# Altium schematic symbol library WR-WTB.SchLib: 259 symbols (part 2 of 5)
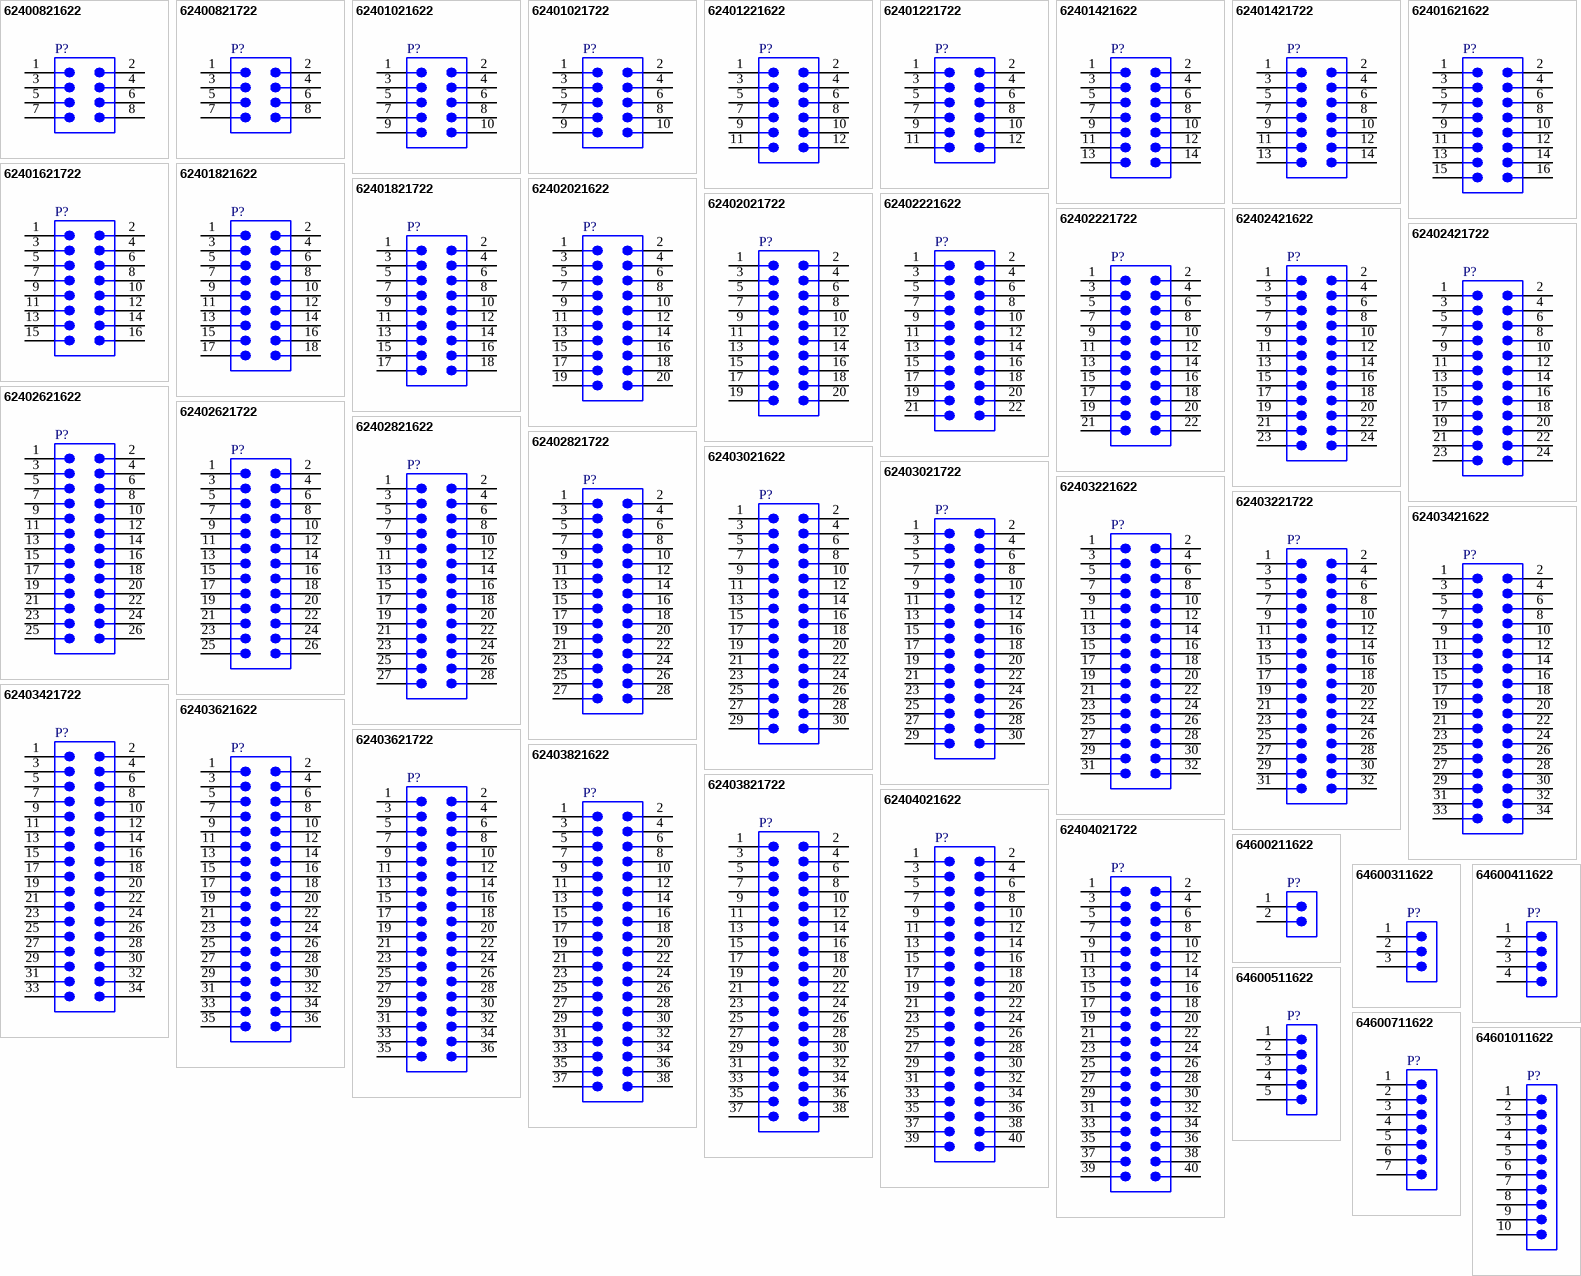
[diagram p7: symbols 62400821622 to 64601011622]

## 62402621622
designator P?  (value not drawn)
WR-WTB THT Male Vertical Shrouded Header with positive locking, Dual Row, pitch 2mm, 26pins; Manufacturer: Wurth Elektronik; Contact Resistance: 20mohm; Rated Current: 3A; Working Voltage: 250V(AC); Withstanding Voltage: 1000V(AC); Manufacturer Part Number: 62402621622; Product Series: WR-WTB; ComponentLink1Description: Website Link; ComponentLink1URL: https://www.we-online.com; ComponentLink2Description: Datasheet Link; ComponentLink2URL: https://www.we-online.com/components/products/datasheet/62402621622; Mount: Through Hole; Operating Temperature Min: -25degC; Operating Temperature Max: 85degC; Packaging: Tube; Length: 29.4mm; Width: 11.5mm; Height: 11.6mm; Gender: Male; Number of Pins: 26; Number of Rows: 2; Orientation: Vertical; Lead Pitch: 2mm
footprint 62402621622
pins: 1, 2, 3, 4, 5, 6, 7, 8, 9, 10, 11, 12, 13, 14, 15, 16, 17, 18, 19, 20, 21, 22, 23, 24, 25, 26

## 62402621722
designator P?  (value not drawn)
WR-WTB THT Male Horizontal Shrouded Header with positive locking, Dual Row, pitch 2mm, 26pins; Manufacturer: Wurth Elektronik; Contact Resistance: 20mohm; Rated Current: 3A; Working Voltage: 250V(AC); Withstanding Voltage: 1000V(AC); Manufacturer Part Number: 62402621722; Product Series: WR-WTB; ComponentLink1Description: Website Link; ComponentLink1URL: https://www.we-online.com; ComponentLink2Description: Datasheet Link; ComponentLink2URL: https://www.we-online.com/components/products/datasheet/62402621722; Mount: Through Hole; Operating Temperature Min: -25degC; Operating Temperature Max: 85degC; Packaging: Tube; Length: 29.4mm; Width: 14.5mm; Height: 11.7mm; Gender: Male; Number of Pins: 26; Number of Rows: 2; Orientation: Horizontal; Lead Pitch: 2mm
footprint 62402621722
pins: 1, 2, 3, 4, 5, 6, 7, 8, 9, 10, 11, 12, 13, 14, 15, 16, 17, 18, 19, 20, 21, 22, 23, 24, 25, 26

## 62402821622
designator P?  (value not drawn)
WR-WTB THT Male Vertical Shrouded Header with positive locking, Dual Row, pitch 2mm, 28pins; Manufacturer: Wurth Elektronik; Contact Resistance: 20mohm; Rated Current: 3A; Working Voltage: 250V(AC); Withstanding Voltage: 1000V(AC); Manufacturer Part Number: 62402821622; Product Series: WR-WTB; ComponentLink1Description: Website Link; ComponentLink1URL: https://www.we-online.com; ComponentLink2Description: Datasheet Link; ComponentLink2URL: https://www.we-online.com/components/products/datasheet/62402821622; Mount: Through Hole; Operating Temperature Min: -25degC; Operating Temperature Max: 85degC; Packaging: Tube; Length: 31.4mm; Width: 11.5mm; Height: 11.6mm; Gender: Male; Number of Pins: 28; Number of Rows: 2; Orientation: Vertical; Lead Pitch: 2mm
footprint 62402821622
pins: 1, 2, 3, 4, 5, 6, 7, 8, 9, 10, 11, 12, 13, 14, 15, 16, 17, 18, 19, 20, 21, 22, 23, 24, 25, 26, 27, 28

## 62402821722
designator P?  (value not drawn)
WR-WTB THT Male Horizontal Shrouded Header with positive locking, Dual Row, pitch 2mm, 28pins; Manufacturer: Wurth Elektronik; Contact Resistance: 20mohm; Rated Current: 3A; Working Voltage: 250V(AC); Withstanding Voltage: 1000V(AC); Manufacturer Part Number: 62402821722; Product Series: WR-WTB; ComponentLink1Description: Website Link; ComponentLink1URL: https://www.we-online.com; ComponentLink2Description: Datasheet Link; ComponentLink2URL: https://www.we-online.com/components/products/datasheet/62402821722; Mount: Through Hole; Operating Temperature Min: -25degC; Operating Temperature Max: 85degC; Packaging: Tube; Length: 31.4mm; Width: 14.5mm; Height: 11.7mm; Gender: Male; Number of Pins: 28; Number of Rows: 2; Orientation: Horizontal; Lead Pitch: 2mm
footprint 62402821722
pins: 1, 2, 3, 4, 5, 6, 7, 8, 9, 10, 11, 12, 13, 14, 15, 16, 17, 18, 19, 20, 21, 22, 23, 24, 25, 26, 27, 28

## 62403021622
designator P?  (value not drawn)
WR-WTB THT Male Vertical Shrouded Header with positive locking, Dual Row, pitch 2mm, 30pins; Manufacturer: Wurth Elektronik; Contact Resistance: 20mohm; Rated Current: 3A; Working Voltage: 250V(AC); Withstanding Voltage: 1000V(AC); Manufacturer Part Number: 62403021622; Product Series: WR-WTB; ComponentLink1Description: Website Link; ComponentLink1URL: https://www.we-online.com; ComponentLink2Description: Datasheet Link; ComponentLink2URL: https://www.we-online.com/components/products/datasheet/62403021622; Mount: Through Hole; Operating Temperature Min: -25degC; Operating Temperature Max: 85degC; Packaging: Tube; Length: 33.4mm; Width: 11.5mm; Height: 11.6mm; Gender: Male; Number of Pins: 30; Number of Rows: 2; Orientation: Vertical; Lead Pitch: 2mm
footprint 62403021622
pins: 1, 2, 3, 4, 5, 6, 7, 8, 9, 10, 11, 12, 13, 14, 15, 16, 17, 18, 19, 20, 21, 22, 23, 24, 25, 26, 27, 28, 29, 30

## 62403021722
designator P?  (value not drawn)
WR-WTB THT Male Horizontal Shrouded Header with positive locking, Dual Row, pitch 2mm, 30pins; Manufacturer: Wurth Elektronik; Contact Resistance: 20mohm; Rated Current: 3A; Working Voltage: 250V(AC); Withstanding Voltage: 1000V(AC); Manufacturer Part Number: 62403021722; Product Series: WR-WTB; ComponentLink1Description: Website Link; ComponentLink1URL: https://www.we-online.com; ComponentLink2Description: Datasheet Link; ComponentLink2URL: https://www.we-online.com/components/products/datasheet/62403021722; Mount: Through Hole; Operating Temperature Min: -25degC; Operating Temperature Max: 85degC; Packaging: Tube; Length: 33.4mm; Width: 14.5mm; Height: 11.7mm; Gender: Male; Number of Pins: 30; Number of Rows: 2; Orientation: Horizontal; Lead Pitch: 2mm
footprint 62403021722
pins: 1, 2, 3, 4, 5, 6, 7, 8, 9, 10, 11, 12, 13, 14, 15, 16, 17, 18, 19, 20, 21, 22, 23, 24, 25, 26, 27, 28, 29, 30

## 62403221622
designator P?  (value not drawn)
WR-WTB THT Male Vertical Shrouded Header with positive locking, Dual Row, pitch 2mm, 32pins; Manufacturer: Wurth Elektronik; Contact Resistance: 20mohm; Rated Current: 3A; Working Voltage: 250V(AC); Withstanding Voltage: 1000V(AC); Manufacturer Part Number: 62403221622; Product Series: WR-WTB; ComponentLink1Description: Website Link; ComponentLink1URL: https://www.we-online.com; ComponentLink2Description: Datasheet Link; ComponentLink2URL: https://www.we-online.com/components/products/datasheet/62403221622; Mount: Through Hole; Operating Temperature Min: -25degC; Operating Temperature Max: 85degC; Packaging: Tube; Length: 35.4mm; Width: 11.5mm; Height: 11.6mm; Gender: Male; Number of Pins: 32; Number of Rows: 2; Orientation: Vertical; Lead Pitch: 2mm
footprint 62403221622
pins: 1, 2, 3, 4, 5, 6, 7, 8, 9, 10, 11, 12, 13, 14, 15, 16, 17, 18, 19, 20, 21, 22, 23, 24, 25, 26, 27, 28, 29, 30, 31, 32

## 62403221722
designator P?  (value not drawn)
WR-WTB THT Male Horizontal Shrouded Header with positive locking, Dual Row, pitch 2mm, 32pins; Manufacturer: Wurth Elektronik; Contact Resistance: 20mohm; Rated Current: 3A; Working Voltage: 250V(AC); Withstanding Voltage: 1000V(AC); Manufacturer Part Number: 62403221722; Product Series: WR-WTB; ComponentLink1Description: Website Link; ComponentLink1URL: https://www.we-online.com; ComponentLink2Description: Datasheet Link; ComponentLink2URL: https://www.we-online.com/components/products/datasheet/62403221722; Mount: Through Hole; Operating Temperature Min: -25degC; Operating Temperature Max: 85degC; Packaging: Tube; Length: 35.4mm; Width: 14.5mm; Height: 11.7mm; Gender: Male; Number of Pins: 32; Number of Rows: 2; Orientation: Horizontal; Lead Pitch: 2mm
footprint 62403221722
pins: 1, 2, 3, 4, 5, 6, 7, 8, 9, 10, 11, 12, 13, 14, 15, 16, 17, 18, 19, 20, 21, 22, 23, 24, 25, 26, 27, 28, 29, 30, 31, 32

## 62403421622
designator P?  (value not drawn)
WR-WTB THT Male Vertical Shrouded Header with positive locking, Dual Row, pitch 2mm, 34pins; Manufacturer: Wurth Elektronik; Contact Resistance: 20mohm; Rated Current: 3A; Working Voltage: 250V(AC); Withstanding Voltage: 1000V(AC); Manufacturer Part Number: 62403421622; Product Series: WR-WTB; ComponentLink1Description: Website Link; ComponentLink1URL: https://www.we-online.com; ComponentLink2Description: Datasheet Link; ComponentLink2URL: https://www.we-online.com/components/products/datasheet/62403421622; Mount: Through Hole; Operating Temperature Min: -25degC; Operating Temperature Max: 85degC; Packaging: Tube; Length: 37.4mm; Width: 11.5mm; Height: 11.6mm; Gender: Male; Number of Pins: 34; Number of Rows: 2; Orientation: Vertical; Lead Pitch: 2mm
footprint 62403421622
pins: 1, 2, 3, 4, 5, 6, 7, 8, 9, 10, 11, 12, 13, 14, 15, 16, 17, 18, 19, 20, 21, 22, 23, 24, 25, 26, 27, 28, 29, 30, 31, 32, 33, 34

## 62403421722
designator P?  (value not drawn)
WR-WTB THT Male Horizontal Shrouded Header with positive locking, Dual Row, pitch 2mm, 34pins; Manufacturer: Wurth Elektronik; Contact Resistance: 20mohm; Rated Current: 3A; Working Voltage: 250V(AC); Withstanding Voltage: 1000V(AC); Manufacturer Part Number: 62403421722; Product Series: WR-WTB; ComponentLink1Description: Website Link; ComponentLink1URL: https://www.we-online.com; ComponentLink2Description: Datasheet Link; ComponentLink2URL: https://www.we-online.com/components/products/datasheet/62403421722; Mount: Through Hole; Operating Temperature Min: -25degC; Operating Temperature Max: 85degC; Packaging: Tube; Length: 37.4mm; Width: 14.5mm; Height: 11.7mm; Gender: Male; Number of Pins: 34; Number of Rows: 2; Orientation: Horizontal; Lead Pitch: 2mm
footprint 62403421722
pins: 1, 2, 3, 4, 5, 6, 7, 8, 9, 10, 11, 12, 13, 14, 15, 16, 17, 18, 19, 20, 21, 22, 23, 24, 25, 26, 27, 28, 29, 30, 31, 32, 33, 34

## 62403621622
designator P?  (value not drawn)
WR-WTB THT Male Vertical Shrouded Header with positive locking, Dual Row, pitch 2mm, 36pins; Manufacturer: Wurth Elektronik; Contact Resistance: 20mohm; Rated Current: 3A; Working Voltage: 250V(AC); Withstanding Voltage: 1000V(AC); Manufacturer Part Number: 62403621622; Product Series: WR-WTB; ComponentLink1Description: Website Link; ComponentLink1URL: https://www.we-online.com; ComponentLink2Description: Datasheet Link; ComponentLink2URL: https://www.we-online.com/components/products/datasheet/62403621622; Mount: Through Hole; Operating Temperature Min: -25degC; Operating Temperature Max: 85degC; Packaging: Tube; Length: 39.4mm; Width: 11.5mm; Height: 11.6mm; Gender: Male; Number of Pins: 36; Number of Rows: 2; Orientation: Vertical; Lead Pitch: 2mm
footprint 62403621622
pins: 1, 2, 3, 4, 5, 6, 7, 8, 9, 10, 11, 12, 13, 14, 15, 16, 17, 18, 19, 20, 21, 22, 23, 24, 25, 26, 27, 28, 29, 30, 31, 32, 33, 34, 35, 36

## 62403621722
designator P?  (value not drawn)
WR-WTB THT Male Horizontal Shrouded Header with positive locking, Dual Row, pitch 2mm, 36pins; Manufacturer: Wurth Elektronik; Contact Resistance: 20mohm; Rated Current: 3A; Working Voltage: 250V(AC); Withstanding Voltage: 1000V(AC); Manufacturer Part Number: 62403621722; Product Series: WR-WTB; ComponentLink1Description: Website Link; ComponentLink1URL: https://www.we-online.com; ComponentLink2Description: Datasheet Link; ComponentLink2URL: https://www.we-online.com/components/products/datasheet/62403621722; Mount: Through Hole; Operating Temperature Min: -25degC; Operating Temperature Max: 85degC; Packaging: Tube; Length: 39.4mm; Width: 14.5mm; Height: 11.7mm; Gender: Male; Number of Pins: 36; Number of Rows: 2; Orientation: Horizontal; Lead Pitch: 2mm
footprint 62403621722
pins: 1, 2, 3, 4, 5, 6, 7, 8, 9, 10, 11, 12, 13, 14, 15, 16, 17, 18, 19, 20, 21, 22, 23, 24, 25, 26, 27, 28, 29, 30, 31, 32, 33, 34, 35, 36

## 62403821622
designator P?  (value not drawn)
WR-WTB THT Male Vertical Shrouded Header with positive locking, Dual Row, pitch 2mm, 38pins; Manufacturer: Wurth Elektronik; Contact Resistance: 20mohm; Rated Current: 3A; Working Voltage: 250V(AC); Withstanding Voltage: 1000V(AC); Manufacturer Part Number: 62403821622; Product Series: WR-WTB; ComponentLink1Description: Website Link; ComponentLink1URL: https://www.we-online.com; ComponentLink2Description: Datasheet Link; ComponentLink2URL: https://www.we-online.com/components/products/datasheet/62403821622; Mount: Through Hole; Operating Temperature Min: -25degC; Operating Temperature Max: 85degC; Packaging: Tube; Length: 41.4mm; Width: 11.5mm; Height: 11.6mm; Gender: Male; Number of Pins: 38; Number of Rows: 2; Orientation: Vertical; Lead Pitch: 2mm
footprint 62403821622
pins: 1, 2, 3, 4, 5, 6, 7, 8, 9, 10, 11, 12, 13, 14, 15, 16, 17, 18, 19, 20, 21, 22, 23, 24, 25, 26, 27, 28, 29, 30, 31, 32, 33, 34, 35, 36, 37, 38

## 62403821722
designator P?  (value not drawn)
WR-WTB THT Male Horizontal Shrouded Header with positive locking, Dual Row, pitch 2mm, 38pins; Manufacturer: Wurth Elektronik; Contact Resistance: 20mohm; Rated Current: 3A; Working Voltage: 250V(AC); Withstanding Voltage: 1000V(AC); Manufacturer Part Number: 62403821722; Product Series: WR-WTB; ComponentLink1Description: Website Link; ComponentLink1URL: https://www.we-online.com; ComponentLink2Description: Datasheet Link; ComponentLink2URL: https://www.we-online.com/components/products/datasheet/62403821722; Mount: Through Hole; Operating Temperature Min: -25degC; Operating Temperature Max: 85degC; Packaging: Tube; Length: 41.4mm; Width: 14.5mm; Height: 11.7mm; Gender: Male; Number of Pins: 38; Number of Rows: 2; Orientation: Horizontal; Lead Pitch: 2mm
footprint 62403821722
pins: 1, 2, 3, 4, 5, 6, 7, 8, 9, 10, 11, 12, 13, 14, 15, 16, 17, 18, 19, 20, 21, 22, 23, 24, 25, 26, 27, 28, 29, 30, 31, 32, 33, 34, 35, 36, 37, 38

## 62404021622
designator P?  (value not drawn)
WR-WTB THT Male Vertical Shrouded Header with positive locking, Dual Row, pitch 2mm, 40pins; Manufacturer: Wurth Elektronik; Contact Resistance: 20mohm; Rated Current: 3A; Working Voltage: 250V(AC); Withstanding Voltage: 1000V(AC); Manufacturer Part Number: 62404021622; Product Series: WR-WTB; ComponentLink1Description: Website Link; ComponentLink1URL: https://www.we-online.com; ComponentLink2Description: Datasheet Link; ComponentLink2URL: https://www.we-online.com/components/products/datasheet/62404021622; Mount: Through Hole; Operating Temperature Min: -25degC; Operating Temperature Max: 85degC; Packaging: Tube; Length: 43.4mm; Width: 11.5mm; Height: 11.6mm; Gender: Male; Number of Pins: 40; Number of Rows: 2; Orientation: Vertical; Lead Pitch: 2mm
footprint 62404021622
pins: 1, 2, 3, 4, 5, 6, 7, 8, 9, 10, 11, 12, 13, 14, 15, 16, 17, 18, 19, 20, 21, 22, 23, 24, 25, 26, 27, 28, 29, 30, 31, 32, 33, 34, 35, 36, 37, 38, 39, 40

## 62404021722
designator P?  (value not drawn)
WR-WTB THT Male Horizontal Shrouded Header with positive locking, Dual Row, pitch 2mm, 40pins; Manufacturer: Wurth Elektronik; Contact Resistance: 20mohm; Rated Current: 3A; Working Voltage: 250V(AC); Withstanding Voltage: 1000V(AC); Manufacturer Part Number: 62404021722; Product Series: WR-WTB; ComponentLink1Description: Website Link; ComponentLink1URL: https://www.we-online.com; ComponentLink2Description: Datasheet Link; ComponentLink2URL: https://www.we-online.com/components/products/datasheet/62404021722; Mount: Through Hole; Operating Temperature Min: -25degC; Operating Temperature Max: 85degC; Packaging: Tube; Length: 43.4mm; Width: 14.5mm; Height: 11.7mm; Gender: Male; Number of Pins: 40; Number of Rows: 2; Orientation: Horizontal; Lead Pitch: 2mm
footprint 62404021722
pins: 1, 2, 3, 4, 5, 6, 7, 8, 9, 10, 11, 12, 13, 14, 15, 16, 17, 18, 19, 20, 21, 22, 23, 24, 25, 26, 27, 28, 29, 30, 31, 32, 33, 34, 35, 36, 37, 38, 39, 40

## 64600211622
designator P?  (value not drawn)
WR-WTB Male Vertical Shrouded Header, pitch 2.5mm, 2pins; Manufacturer: Wurth Elektronik; Contact Resistance: 20mohm; Rated Current: 3A; Working Voltage: 250V(AC); Withstanding Voltage: 1000V(AC); Manufacturer Part Number: 64600211622; Product Series: WR-WTB; ComponentLink1Description: Website Link; ComponentLink1URL: https://www.we-online.com; ComponentLink2Description: Datasheet Link; ComponentLink2URL: https://www.we-online.com/components/products/datasheet/64600211622; Mount: Through Hole; Operating Temperature Min: -40degC; Operating Temperature Max: 105degC; Packaging: Bag; Length: 7.5mm; Width: 4.9mm; Height: 5.9mm; Gender: Male; Number of Pins: 2; Number of Rows: 1; Orientation: Vertical; Lead Pitch: 2.5mm
footprint 64600211622
pins: 1, 2

## 64600311622
designator P?  (value not drawn)
WR-WTB Male Vertical Shrouded Header, pitch 2.5mm, 3pins; Manufacturer: Wurth Elektronik; Contact Resistance: 20mohm; Rated Current: 3A; Working Voltage: 250V(AC); Withstanding Voltage: 1000V(AC); Manufacturer Part Number: 64600311622; Product Series: WR-WTB; ComponentLink1Description: Website Link; ComponentLink1URL: https://www.we-online.com; ComponentLink2Description: Datasheet Link; ComponentLink2URL: https://www.we-online.com/components/products/datasheet/64600311622; Mount: Through Hole; Operating Temperature Min: -40degC; Operating Temperature Max: 105degC; Packaging: Bag; Length: 10mm; Width: 4.9mm; Height: 5.9mm; Gender: Male; Number of Pins: 3; Number of Rows: 1; Orientation: Vertical; Lead Pitch: 2.5mm
footprint 64600311622
pins: 1, 2, 3

## 64600411622
designator P?  (value not drawn)
WR-WTB Male Vertical Shrouded Header, pitch 2.5mm, 4pins; Manufacturer: Wurth Elektronik; Contact Resistance: 20mohm; Rated Current: 3A; Working Voltage: 250V(AC); Withstanding Voltage: 1000V(AC); Manufacturer Part Number: 64600411622; Product Series: WR-WTB; ComponentLink1Description: Website Link; ComponentLink1URL: https://www.we-online.com; ComponentLink2Description: Datasheet Link; ComponentLink2URL: https://www.we-online.com/components/products/datasheet/64600411622; Mount: Through Hole; Operating Temperature Min: -40degC; Operating Temperature Max: 105degC; Packaging: Bag; Length: 12.5mm; Width: 4.9mm; Height: 5.9mm; Gender: Male; Number of Pins: 4; Number of Rows: 1; Orientation: Vertical; Lead Pitch: 2.5mm
footprint 64600411622
pins: 1, 2, 3, 4

## 64600511622
designator P?  (value not drawn)
WR-WTB Male Vertical Shrouded Header, pitch 2.5mm, 5pins; Manufacturer: Wurth Elektronik; Contact Resistance: 20mohm; Rated Current: 3A; Working Voltage: 250V(AC); Withstanding Voltage: 1000V(AC); Manufacturer Part Number: 64600511622; Product Series: WR-WTB; ComponentLink1Description: Website Link; ComponentLink1URL: https://www.we-online.com; ComponentLink2Description: Datasheet Link; ComponentLink2URL: https://www.we-online.com/components/products/datasheet/64600511622; Mount: Through Hole; Operating Temperature Min: -40degC; Operating Temperature Max: 105degC; Packaging: Bag; Length: 15mm; Width: 4.9mm; Height: 5.9mm; Gender: Male; Number of Pins: 5; Number of Rows: 1; Orientation: Vertical; Lead Pitch: 2.5mm
footprint 64600511622
pins: 1, 2, 3, 4, 5

## 64600711622
designator P?  (value not drawn)
WR-WTB Male Vertical Shrouded Header, pitch 2.5mm, 7pins; Manufacturer: Wurth Elektronik; Contact Resistance: 20mohm; Rated Current: 3A; Working Voltage: 250V(AC); Withstanding Voltage: 1000V(AC); Manufacturer Part Number: 64600711622; Product Series: WR-WTB; ComponentLink1Description: Website Link; ComponentLink1URL: https://www.we-online.com; ComponentLink2Description: Datasheet Link; ComponentLink2URL: https://www.we-online.com/components/products/datasheet/64600711622; Mount: Through Hole; Operating Temperature Min: -40degC; Operating Temperature Max: 105degC; Packaging: Bag; Length: 20mm; Width: 4.9mm; Height: 5.9mm; Gender: Male; Number of Pins: 7; Number of Rows: 1; Orientation: Vertical; Lead Pitch: 2.5mm
footprint 64600711622
pins: 1, 2, 3, 4, 5, 6, 7

## 64601011622
designator P?  (value not drawn)
WR-WTB Male Vertical Shrouded Header, pitch 2.5mm, 10pins; Manufacturer: Wurth Elektronik; Contact Resistance: 20mohm; Rated Current: 3A; Working Voltage: 250V(AC); Withstanding Voltage: 1000V(AC); Manufacturer Part Number: 64601011622; Product Series: WR-WTB; ComponentLink1Description: Website Link; ComponentLink1URL: https://www.we-online.com; ComponentLink2Description: Datasheet Link; ComponentLink2URL: https://www.we-online.com/components/products/datasheet/64601011622; Mount: Through Hole; Operating Temperature Min: -40degC; Operating Temperature Max: 105degC; Packaging: Bag; Length: 27.5mm; Width: 4.9mm; Height: 5.9mm; Gender: Male; Number of Pins: 10; Number of Rows: 1; Orientation: Vertical; Lead Pitch: 2.5mm
footprint 64601011622
pins: 1, 2, 3, 4, 5, 6, 7, 8, 9, 10

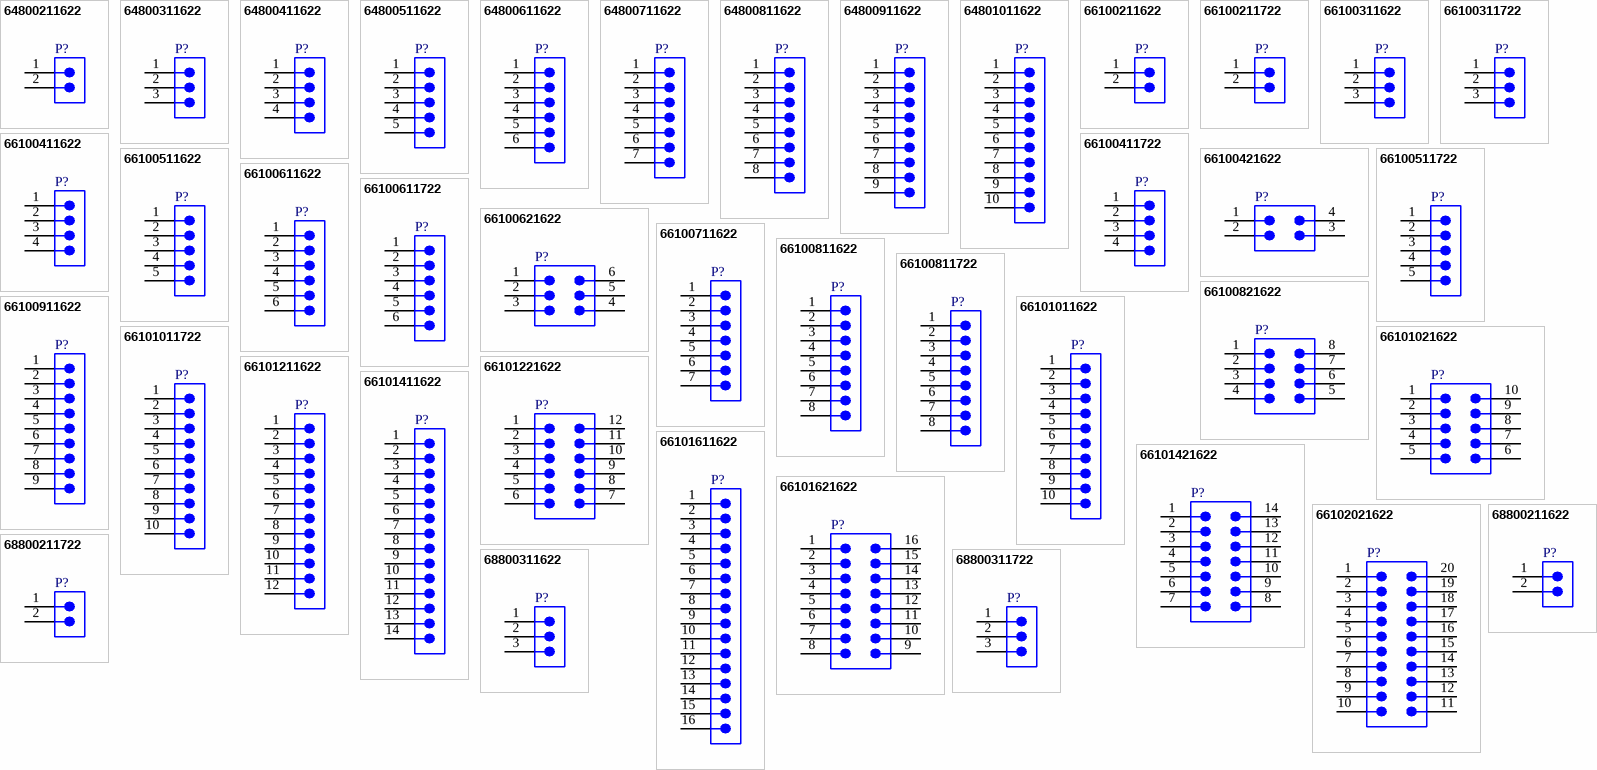
[diagram p2: symbols 64800211622 to 68800311722]

## 64800211622
designator P?  (value not drawn)
WR-WTB THT Male Vertical Shrouded Header, pitch 1.5mm, 2pins; Manufacturer: Wurth Elektronik; Contact Resistance: 20mohm; Rated Current: 1A; Working Voltage: 50V(AC); Withstanding Voltage: 500V(AC); Manufacturer Part Number: 64800211622; Product Series: WR-WTB; ComponentLink1Description: Website Link; ComponentLink1URL: https://www.we-online.com; ComponentLink2Description: Datasheet Link; ComponentLink2URL: https://www.we-online.com/components/products/datasheet/64800211622; Mount: Through Hole; Operating Temperature Min: -25degC; Operating Temperature Max: 85degC; Packaging: Bag; Length: 4.5mm; Width: 3.5mm; Height: 4.5mm; Gender: Male; Number of Pins: 2; Number of Rows: 1; Orientation: Vertical; Lead Pitch: 1.5mm
footprint 64800211622
pins: 1, 2

## 64800311622
designator P?  (value not drawn)
WR-WTB THT Male Vertical Shrouded Header, pitch 1.5mm, 3pins; Manufacturer: Wurth Elektronik; Contact Resistance: 20mohm; Rated Current: 1A; Working Voltage: 50V(AC); Withstanding Voltage: 500V(AC); Manufacturer Part Number: 64800311622; Product Series: WR-WTB; ComponentLink1Description: Website Link; ComponentLink1URL: https://www.we-online.com; ComponentLink2Description: Datasheet Link; ComponentLink2URL: https://www.we-online.com/components/products/datasheet/64800311622; Mount: Through Hole; Operating Temperature Min: -25degC; Operating Temperature Max: 85degC; Packaging: Bag; Length: 6mm; Width: 3.5mm; Height: 4.5mm; Gender: Male; Number of Pins: 3; Number of Rows: 1; Orientation: Vertical; Lead Pitch: 1.5mm
footprint 64800311622
pins: 1, 2, 3

## 64800411622
designator P?  (value not drawn)
WR-WTB THT Male Vertical Shrouded Header, pitch 1.5mm, 4pins; Manufacturer: Wurth Elektronik; Contact Resistance: 20mohm; Rated Current: 1A; Working Voltage: 50V(AC); Withstanding Voltage: 500V(AC); Manufacturer Part Number: 64800411622; Product Series: WR-WTB; ComponentLink1Description: Website Link; ComponentLink1URL: https://www.we-online.com; ComponentLink2Description: Datasheet Link; ComponentLink2URL: https://www.we-online.com/components/products/datasheet/64800411622; Mount: Through Hole; Operating Temperature Min: -25degC; Operating Temperature Max: 85degC; Packaging: Bag; Length: 7.5mm; Width: 3.5mm; Height: 4.5mm; Gender: Male; Number of Pins: 4; Number of Rows: 1; Orientation: Vertical; Lead Pitch: 1.5mm
footprint 64800411622
pins: 1, 2, 3, 4

## 64800511622
designator P?  (value not drawn)
WR-WTB THT Male Vertical Shrouded Header, pitch 1.5mm, 5pins; Manufacturer: Wurth Elektronik; Contact Resistance: 20mohm; Rated Current: 1A; Working Voltage: 50V(AC); Withstanding Voltage: 500V(AC); Manufacturer Part Number: 64800511622; Product Series: WR-WTB; ComponentLink1Description: Website Link; ComponentLink1URL: https://www.we-online.com; ComponentLink2Description: Datasheet Link; ComponentLink2URL: https://www.we-online.com/components/products/datasheet/64800511622; Mount: Through Hole; Operating Temperature Min: -25degC; Operating Temperature Max: 85degC; Packaging: Bag; Length: 9mm; Width: 3.5mm; Height: 4.5mm; Gender: Male; Number of Pins: 5; Number of Rows: 1; Orientation: Vertical; Lead Pitch: 1.5mm
footprint 64800511622
pins: 1, 2, 3, 4, 5

## 64800611622
designator P?  (value not drawn)
WR-WTB THT Male Vertical Shrouded Header, pitch 1.5mm, 6pins; Manufacturer: Wurth Elektronik; Contact Resistance: 20mohm; Rated Current: 1A; Working Voltage: 50V(AC); Withstanding Voltage: 500V(AC); Manufacturer Part Number: 64800611622; Product Series: WR-WTB; ComponentLink1Description: Website Link; ComponentLink1URL: https://www.we-online.com; ComponentLink2Description: Datasheet Link; ComponentLink2URL: https://www.we-online.com/components/products/datasheet/64800611622; Mount: Through Hole; Operating Temperature Min: -25degC; Operating Temperature Max: 85degC; Packaging: Bag; Length: 10.5mm; Width: 3.5mm; Height: 4.5mm; Gender: Male; Number of Pins: 6; Number of Rows: 1; Orientation: Vertical; Lead Pitch: 1.5mm
footprint 64800611622
pins: 1, 2, 3, 4, 5, 6

## 64800711622
designator P?  (value not drawn)
WR-WTB THT Male Vertical Shrouded Header, pitch 1.5mm, 7pins; Manufacturer: Wurth Elektronik; Contact Resistance: 20mohm; Rated Current: 1A; Working Voltage: 50V(AC); Withstanding Voltage: 500V(AC); Manufacturer Part Number: 64800711622; Product Series: WR-WTB; ComponentLink1Description: Website Link; ComponentLink1URL: https://www.we-online.com; ComponentLink2Description: Datasheet Link; ComponentLink2URL: https://www.we-online.com/components/products/datasheet/64800711622; Mount: Through Hole; Operating Temperature Min: -25degC; Operating Temperature Max: 85degC; Packaging: Bag; Length: 12mm; Width: 3.5mm; Height: 4.5mm; Gender: Male; Number of Pins: 7; Number of Rows: 1; Orientation: Vertical; Lead Pitch: 1.5mm
footprint 64800711622
pins: 1, 2, 3, 4, 5, 6, 7

## 64800811622
designator P?  (value not drawn)
WR-WTB THT Male Vertical Shrouded Header, pitch 1.5mm, 8pins; Manufacturer: Wurth Elektronik; Contact Resistance: 20mohm; Rated Current: 1A; Working Voltage: 50V(AC); Withstanding Voltage: 500V(AC); Manufacturer Part Number: 64800811622; Product Series: WR-WTB; ComponentLink1Description: Website Link; ComponentLink1URL: https://www.we-online.com; ComponentLink2Description: Datasheet Link; ComponentLink2URL: https://www.we-online.com/components/products/datasheet/64800811622; Mount: Through Hole; Operating Temperature Min: -25degC; Operating Temperature Max: 85degC; Packaging: Bag; Length: 13.5mm; Width: 3.5mm; Height: 4.5mm; Gender: Male; Number of Pins: 8; Number of Rows: 1; Orientation: Vertical; Lead Pitch: 1.5mm
footprint 64800811622
pins: 1, 2, 3, 4, 5, 6, 7, 8

## 64800911622
designator P?  (value not drawn)
WR-WTB THT Male Vertical Shrouded Header, pitch 1.5mm, 9pins; Manufacturer: Wurth Elektronik; Contact Resistance: 20mohm; Rated Current: 1A; Working Voltage: 50V(AC); Withstanding Voltage: 500V(AC); Manufacturer Part Number: 64800911622; Product Series: WR-WTB; ComponentLink1Description: Website Link; ComponentLink1URL: https://www.we-online.com; ComponentLink2Description: Datasheet Link; ComponentLink2URL: https://www.we-online.com/components/products/datasheet/64800911622; Mount: Through Hole; Operating Temperature Min: -25degC; Operating Temperature Max: 85degC; Packaging: Bag; Length: 15mm; Width: 3.5mm; Height: 4.5mm; Gender: Male; Number of Pins: 9; Number of Rows: 1; Orientation: Vertical; Lead Pitch: 1.5mm
footprint 64800911622
pins: 1, 2, 3, 4, 5, 6, 7, 8, 9

## 64801011622
designator P?  (value not drawn)
WR-WTB THT Male Vertical Shrouded Header, pitch 1.5mm, 10pins; Manufacturer: Wurth Elektronik; Contact Resistance: 20mohm; Rated Current: 1A; Working Voltage: 50V(AC); Withstanding Voltage: 500V(AC); Manufacturer Part Number: 64801011622; Product Series: WR-WTB; ComponentLink1Description: Website Link; ComponentLink1URL: https://www.we-online.com; ComponentLink2Description: Datasheet Link; ComponentLink2URL: https://www.we-online.com/components/products/datasheet/64801011622; Mount: Through Hole; Operating Temperature Min: -25degC; Operating Temperature Max: 85degC; Packaging: Bag; Length: 16.5mm; Width: 3.5mm; Height: 4.5mm; Gender: Male; Number of Pins: 10; Number of Rows: 1; Orientation: Vertical; Lead Pitch: 1.5mm
footprint 64801011622
pins: 1, 2, 3, 4, 5, 6, 7, 8, 9, 10

## 66100211622
designator P?  (value not drawn)
WR-WTB Male Vertical Shrouded Header, pitch 2.54mm, 2pins; Manufacturer: Wurth Elektronik; Contact Resistance: 20mohm; Rated Current: 3A; Working Voltage: 50V(AC); Withstanding Voltage: 500V(AC); Manufacturer Part Number: 66100211622; Product Series: WR-WTB; ComponentLink1Description: Website Link; ComponentLink1URL: https://www.we-online.com; ComponentLink2Description: Datasheet Link; ComponentLink2URL: https://www.we-online.com/components/products/datasheet/66100211622; Mount: Through Hole; Operating Temperature Min: -40degC; Operating Temperature Max: 125degC; Packaging: Box; Length: 4.78mm; Width: 5mm; Height: 11.3mm; Gender: Male; Number of Pins: 2; Number of Rows: 1; Orientation: Vertical; Lead Pitch: 2.54mm
footprint 66100211622
pins: 1, 2

## 66100211722
designator P?  (value not drawn)
WR-WTB THT Male Right Angled Shrouded Header, pitch 2.54mm, 2pins; Manufacturer: Wurth Elektronik; Contact Resistance: 20mohm; Rated Current: 3A; Working Voltage: 50V(AC); Withstanding Voltage: 500V(AC); Manufacturer Part Number: 66100211722; Product Series: WR-WTB; ComponentLink1Description: Website Link; ComponentLink1URL: https://www.we-online.com; ComponentLink2Description: Datasheet Link; ComponentLink2URL: https://www.we-online.com/components/products/datasheet/66100211722; Mount: Through Hole; Operating Temperature Min: -40degC; Operating Temperature Max: 125degC; Packaging: Box; Length: 4.78mm; Width: 11.3mm; Height: 5mm; Gender: Male; Number of Pins: 2; Number of Rows: 1; Orientation: Right Angled; Lead Pitch: 2.54mm
footprint 66100211722
pins: 1, 2

## 66100311622
designator P?  (value not drawn)
WR-WTB Male Vertical Shrouded Header, pitch 2.54mm, 3pins; Manufacturer: Wurth Elektronik; Contact Resistance: 20mohm; Rated Current: 3A; Working Voltage: 50V(AC); Withstanding Voltage: 500V(AC); Manufacturer Part Number: 66100311622; Product Series: WR-WTB; ComponentLink1Description: Website Link; ComponentLink1URL: https://www.we-online.com; ComponentLink2Description: Datasheet Link; ComponentLink2URL: https://www.we-online.com/components/products/datasheet/66100311622; Mount: Through Hole; Operating Temperature Min: -40degC; Operating Temperature Max: 125degC; Packaging: Box; Length: 7.32mm; Width: 5mm; Height: 11.3mm; Gender: Male; Number of Pins: 3; Number of Rows: 1; Orientation: Vertical; Lead Pitch: 2.54mm
footprint 66100311622
pins: 1, 2, 3

## 66100311722
designator P?  (value not drawn)
WR-WTB THT Male Right Angled Shrouded Header, pitch 2.54mm, 3pins; Manufacturer: Wurth Elektronik; Contact Resistance: 20mohm; Rated Current: 3A; Working Voltage: 50V(AC); Withstanding Voltage: 500V(AC); Manufacturer Part Number: 66100311722; Product Series: WR-WTB; ComponentLink1Description: Website Link; ComponentLink1URL: https://www.we-online.com; ComponentLink2Description: Datasheet Link; ComponentLink2URL: https://www.we-online.com/components/products/datasheet/66100311722; Mount: Through Hole; Operating Temperature Min: -40degC; Operating Temperature Max: 125degC; Packaging: Box; Length: 7.32mm; Width: 11.3mm; Height: 5mm; Gender: Male; Number of Pins: 3; Number of Rows: 1; Orientation: Right Angled; Lead Pitch: 2.54mm
footprint 66100311722
pins: 1, 2, 3

## 66100411622
designator P?  (value not drawn)
WR-WTB Male Vertical Shrouded Header, pitch 2.54mm, 4pins; Manufacturer: Wurth Elektronik; Contact Resistance: 20mohm; Rated Current: 3A; Working Voltage: 50V(AC); Withstanding Voltage: 500V(AC); Manufacturer Part Number: 66100411622; Product Series: WR-WTB; ComponentLink1Description: Website Link; ComponentLink1URL: https://www.we-online.com; ComponentLink2Description: Datasheet Link; ComponentLink2URL: https://www.we-online.com/components/products/datasheet/66100411622; Mount: Through Hole; Operating Temperature Min: -40degC; Operating Temperature Max: 125degC; Packaging: Box; Length: 9.86mm; Width: 5mm; Height: 11.3mm; Gender: Male; Number of Pins: 4; Number of Rows: 1; Orientation: Vertical; Lead Pitch: 2.54mm
footprint 66100411622
pins: 1, 2, 3, 4

## 66100411722
designator P?  (value not drawn)
WR-WTB THT Male Right Angled Shrouded Header, pitch 2.54mm, 4pins; Manufacturer: Wurth Elektronik; Contact Resistance: 20mohm; Rated Current: 3A; Working Voltage: 50V(AC); Withstanding Voltage: 500V(AC); Manufacturer Part Number: 66100411722; Product Series: WR-WTB; ComponentLink1Description: Website Link; ComponentLink1URL: https://www.we-online.com; ComponentLink2Description: Datasheet Link; ComponentLink2URL: https://www.we-online.com/components/products/datasheet/66100411722; Mount: Through Hole; Operating Temperature Min: -40degC; Operating Temperature Max: 125degC; Packaging: Box; Length: 9.86mm; Width: 11.3mm; Height: 5mm; Gender: Male; Number of Pins: 4; Number of Rows: 1; Orientation: Right Angled; Lead Pitch: 2.54mm
footprint 66100411722
pins: 1, 2, 3, 4

## 66100421622
designator P?  (value not drawn)
WR-WTB THT Male Vertical Shrouded Header, pitch 2.54mm, 4pins; Manufacturer: Wurth Elektronik; Contact Resistance: 20mohm; Rated Current: 3A; Working Voltage: 50V(AC); Withstanding Voltage: 500V(AC); Manufacturer Part Number: 66100421622; Product Series: WR-WTB; ComponentLink1Description: Website Link; ComponentLink1URL: https://www.we-online.com; ComponentLink2Description: Datasheet Link; ComponentLink2URL: https://www.we-online.com/components/products/datasheet/66100421622; Mount: Through Hole; Operating Temperature Min: -40degC; Operating Temperature Max: 125degC; Packaging: Carton; Width: 7.6mm; Height: 11.2mm; Gender: Male; Number of Pins: 4; Number of Rows: 2; Orientation: Vertical; Lead Pitch: 2.54mm
footprint 66100421622
pins: 1, 2, 3, 4

## 66100511622
designator P?  (value not drawn)
WR-WTB Male Vertical Shrouded Header, pitch 2.54mm, 5pins; Manufacturer: Wurth Elektronik; Contact Resistance: 20mohm; Rated Current: 3A; Working Voltage: 50V(AC); Withstanding Voltage: 500V(AC); Manufacturer Part Number: 66100511622; Product Series: WR-WTB; ComponentLink1Description: Website Link; ComponentLink1URL: https://www.we-online.com; ComponentLink2Description: Datasheet Link; ComponentLink2URL: https://www.we-online.com/components/products/datasheet/66100511622; Mount: Through Hole; Operating Temperature Min: -40degC; Operating Temperature Max: 125degC; Packaging: Box; Length: 12.4mm; Width: 5mm; Height: 11.3mm; Gender: Male; Number of Pins: 5; Number of Rows: 1; Orientation: Vertical; Lead Pitch: 2.54mm
footprint 66100511622
pins: 1, 2, 3, 4, 5

## 66100511722
designator P?  (value not drawn)
WR-WTB THT Male Right Angled Shrouded Header, pitch 2.54mm, 5pins; Manufacturer: Wurth Elektronik; Contact Resistance: 20mohm; Rated Current: 3A; Working Voltage: 50V(AC); Withstanding Voltage: 500V(AC); Manufacturer Part Number: 66100511722; Product Series: WR-WTB; ComponentLink1Description: Website Link; ComponentLink1URL: https://www.we-online.com; ComponentLink2Description: Datasheet Link; ComponentLink2URL: https://www.we-online.com/components/products/datasheet/66100511722; Mount: Through Hole; Operating Temperature Min: -40degC; Operating Temperature Max: 125degC; Packaging: Box; Length: 12.4mm; Width: 11.3mm; Height: 5mm; Gender: Male; Number of Pins: 5; Number of Rows: 1; Orientation: Right Angled; Lead Pitch: 2.54mm
footprint 66100511722
pins: 1, 2, 3, 4, 5

## 66100611622
designator P?  (value not drawn)
WR-WTB Male Vertical Shrouded Header, pitch 2.54mm, 6pins; Manufacturer: Wurth Elektronik; Contact Resistance: 20mohm; Rated Current: 3A; Working Voltage: 50V(AC); Withstanding Voltage: 500V(AC); Manufacturer Part Number: 66100611622; Product Series: WR-WTB; ComponentLink1Description: Website Link; ComponentLink1URL: https://www.we-online.com; ComponentLink2Description: Datasheet Link; ComponentLink2URL: https://www.we-online.com/components/products/datasheet/66100611622; Mount: Through Hole; Operating Temperature Min: -40degC; Operating Temperature Max: 125degC; Packaging: Box; Width: 5mm; Height: 11.3mm; Gender: Male; Number of Pins: 6; Number of Rows: 1; Orientation: Vertical; Lead Pitch: 2.54mm
footprint 66100611622
pins: 1, 2, 3, 4, 5, 6

## 66100611722
designator P?  (value not drawn)
WR-WTB THT Male Right Angled Shrouded Header, pitch 2.54mm, 6pins; Manufacturer: Wurth Elektronik; Contact Resistance: 20mohm; Rated Current: 3A; Working Voltage: 50V(AC); Withstanding Voltage: 500V(AC); Manufacturer Part Number: 66100611722; Product Series: WR-WTB; ComponentLink1Description: Website Link; ComponentLink1URL: https://www.we-online.com; ComponentLink2Description: Datasheet Link; ComponentLink2URL: https://www.we-online.com/components/products/datasheet/66100611722; Mount: Through Hole; Operating Temperature Min: -40degC; Operating Temperature Max: 125degC; Packaging: Box; Length: 14.94mm; Width: 11.3mm; Height: 5mm; Gender: Male; Number of Pins: 6; Number of Rows: 1; Orientation: Right Angled; Lead Pitch: 2.54mm
footprint 66100611722
pins: 1, 2, 3, 4, 5, 6

## 66100621622
designator P?  (value not drawn)
WR-WTB THT Male Vertical Shrouded Header, pitch 2.54mm, 6pins; Manufacturer: Wurth Elektronik; Contact Resistance: 20mohm; Rated Current: 3A; Working Voltage: 50V(AC); Withstanding Voltage: 500V(AC); Manufacturer Part Number: 66100621622; Product Series: WR-WTB; ComponentLink1Description: Website Link; ComponentLink1URL: https://www.we-online.com; ComponentLink2Description: Datasheet Link; ComponentLink2URL: https://www.we-online.com/components/products/datasheet/66100621622; Mount: Through Hole; Operating Temperature Min: -40degC; Operating Temperature Max: 125degC; Packaging: Carton; Width: 7.6mm; Height: 11.2mm; Gender: Male; Number of Pins: 6; Number of Rows: 2; Orientation: Vertical; Lead Pitch: 2.54mm
footprint 66100621622
pins: 1, 2, 3, 4, 5, 6

## 66100711622
designator P?  (value not drawn)
WR-WTB Male Vertical Shrouded Header, pitch 2.54mm, 7pins; Manufacturer: Wurth Elektronik; Contact Resistance: 20mohm; Rated Current: 3A; Working Voltage: 50V(AC); Withstanding Voltage: 500V(AC); Manufacturer Part Number: 66100711622; Product Series: WR-WTB; ComponentLink1Description: Website Link; ComponentLink1URL: https://www.we-online.com; ComponentLink2Description: Datasheet Link; ComponentLink2URL: https://www.we-online.com/components/products/datasheet/66100711622; Mount: Through Hole; Operating Temperature Min: -40degC; Operating Temperature Max: 125degC; Packaging: Box; Width: 5mm; Height: 11.3mm; Gender: Male; Number of Pins: 7; Number of Rows: 1; Orientation: Vertical; Lead Pitch: 2.54mm
footprint 66100711622
pins: 1, 2, 3, 4, 5, 6, 7

## 66100811622
designator P?  (value not drawn)
WR-WTB Male Vertical Shrouded Header, pitch 2.54mm, 8pins; Manufacturer: Wurth Elektronik; Contact Resistance: 20mohm; Rated Current: 3A; Working Voltage: 50V(AC); Withstanding Voltage: 500V(AC); Manufacturer Part Number: 66100811622; Product Series: WR-WTB; ComponentLink1Description: Website Link; ComponentLink1URL: https://www.we-online.com; ComponentLink2Description: Datasheet Link; ComponentLink2URL: https://www.we-online.com/components/products/datasheet/66100811622; Mount: Through Hole; Operating Temperature Min: -40degC; Operating Temperature Max: 125degC; Packaging: Box; Length: 20.02mm; Width: 5mm; Height: 11.3mm; Gender: Male; Number of Pins: 8; Number of Rows: 1; Orientation: Vertical; Lead Pitch: 2.54mm
footprint 66100811622
pins: 1, 2, 3, 4, 5, 6, 7, 8

## 66100811722
designator P?  (value not drawn)
WR-WTB THT Male Right Angled Shrouded Header, pitch 2.54mm, 8pins; Manufacturer: Wurth Elektronik; Contact Resistance: 20mohm; Rated Current: 3A; Working Voltage: 50V(AC); Withstanding Voltage: 500V(AC); Manufacturer Part Number: 66100811722; Product Series: WR-WTB; ComponentLink1Description: Website Link; ComponentLink1URL: https://www.we-online.com; ComponentLink2Description: Datasheet Link; ComponentLink2URL: https://www.we-online.com/components/products/datasheet/66100811722; Mount: Through Hole; Operating Temperature Min: -40degC; Operating Temperature Max: 125degC; Packaging: Box; Length: 20.02mm; Width: 11.3mm; Height: 5mm; Gender: Male; Number of Pins: 8; Number of Rows: 1; Orientation: Right Angled; Lead Pitch: 2.54mm
footprint 66100811722
pins: 1, 2, 3, 4, 5, 6, 7, 8

## 66100821622
designator P?  (value not drawn)
WR-WTB THT Male Vertical Shrouded Header, pitch 2.54mm, 8pins; Manufacturer: Wurth Elektronik; Contact Resistance: 20mohm; Rated Current: 3A; Working Voltage: 50V(AC); Withstanding Voltage: 500V(AC); Manufacturer Part Number: 66100821622; Product Series: WR-WTB; ComponentLink1Description: Website Link; ComponentLink1URL: https://www.we-online.com; ComponentLink2Description: Datasheet Link; ComponentLink2URL: https://www.we-online.com/components/products/datasheet/66100821622; Mount: Through Hole; Operating Temperature Min: -40degC; Operating Temperature Max: 125degC; Packaging: Carton; Width: 7.6mm; Height: 11.2mm; Gender: Male; Number of Pins: 8; Number of Rows: 2; Orientation: Vertical; Lead Pitch: 2.54mm
footprint 66100821622
pins: 1, 2, 3, 4, 5, 6, 7, 8

## 66100911622
designator P?  (value not drawn)
WR-WTB Male Vertical Shrouded Header, pitch 2.54mm, 9pins; Manufacturer: Wurth Elektronik; Contact Resistance: 20mohm; Rated Current: 3A; Working Voltage: 50V(AC); Withstanding Voltage: 500V(AC); Manufacturer Part Number: 66100911622; Product Series: WR-WTB; ComponentLink1Description: Website Link; ComponentLink1URL: https://www.we-online.com; ComponentLink2Description: Datasheet Link; ComponentLink2URL: https://www.we-online.com/components/products/datasheet/66100911622; Mount: Through Hole; Operating Temperature Min: -40degC; Operating Temperature Max: 125degC; Packaging: Box; Width: 5mm; Height: 11.3mm; Gender: Male; Number of Pins: 9; Number of Rows: 1; Orientation: Vertical; Lead Pitch: 2.54mm
footprint 66100911622
pins: 1, 2, 3, 4, 5, 6, 7, 8, 9

## 66101011622
designator P?  (value not drawn)
WR-WTB Male Vertical Shrouded Header, pitch 2.54mm, 10pins; Manufacturer: Wurth Elektronik; Contact Resistance: 20mohm; Rated Current: 3A; Working Voltage: 50V(AC); Withstanding Voltage: 500V(AC); Manufacturer Part Number: 66101011622; Product Series: WR-WTB; ComponentLink1Description: Website Link; ComponentLink1URL: https://www.we-online.com; ComponentLink2Description: Datasheet Link; ComponentLink2URL: https://www.we-online.com/components/products/datasheet/66101011622; Mount: Through Hole; Operating Temperature Min: -40degC; Operating Temperature Max: 125degC; Packaging: Box; Length: 25.1mm; Width: 5mm; Height: 11.3mm; Gender: Male; Number of Pins: 10; Number of Rows: 1; Orientation: Vertical; Lead Pitch: 2.54mm
footprint 66101011622
pins: 1, 2, 3, 4, 5, 6, 7, 8, 9, 10

## 66101011722
designator P?  (value not drawn)
WR-WTB THT Male Right Angled Shrouded Header, pitch 2.54mm, 10pins; Manufacturer: Wurth Elektronik; Contact Resistance: 20mohm; Rated Current: 3A; Working Voltage: 50V(AC); Withstanding Voltage: 500V(AC); Manufacturer Part Number: 66101011722; Product Series: WR-WTB; ComponentLink1Description: Website Link; ComponentLink1URL: https://www.we-online.com; ComponentLink2Description: Datasheet Link; ComponentLink2URL: https://www.we-online.com/components/products/datasheet/66101011722; Mount: Through Hole; Operating Temperature Min: -40degC; Operating Temperature Max: 125degC; Packaging: Box; Length: 25.1mm; Width: 11.3mm; Height: 5mm; Gender: Male; Number of Pins: 10; Number of Rows: 1; Orientation: Right Angled; Lead Pitch: 2.54mm
footprint 66101011722
pins: 1, 2, 3, 4, 5, 6, 7, 8, 9, 10

## 66101021622
designator P?  (value not drawn)
WR-WTB THT Male Vertical Shrouded Header, pitch 2.54mm, 10pins; Manufacturer: Wurth Elektronik; Contact Resistance: 20mohm; Rated Current: 3A; Working Voltage: 50V(AC); Withstanding Voltage: 500V(AC); Manufacturer Part Number: 66101021622; Product Series: WR-WTB; ComponentLink1Description: Website Link; ComponentLink1URL: https://www.we-online.com; ComponentLink2Description: Datasheet Link; ComponentLink2URL: https://www.we-online.com/components/products/datasheet/66101021622; Mount: Through Hole; Operating Temperature Min: -40degC; Operating Temperature Max: 125degC; Packaging: Carton; Width: 7.6mm; Height: 11.2mm; Gender: Male; Number of Pins: 10; Number of Rows: 2; Orientation: Vertical; Lead Pitch: 2.54mm
footprint 66101021622
pins: 1, 2, 3, 4, 5, 6, 7, 8, 9, 10

## 66101211622
designator P?  (value not drawn)
WR-WTB Male Vertical Shrouded Header, pitch 2.54mm, 12pins; Manufacturer: Wurth Elektronik; Contact Resistance: 20mohm; Rated Current: 3A; Working Voltage: 50V(AC); Withstanding Voltage: 500V(AC); Manufacturer Part Number: 66101211622; Product Series: WR-WTB; ComponentLink1Description: Website Link; ComponentLink1URL: https://www.we-online.com; ComponentLink2Description: Datasheet Link; ComponentLink2URL: https://www.we-online.com/components/products/datasheet/66101211622; Mount: Through Hole; Operating Temperature Min: -40degC; Operating Temperature Max: 125degC; Packaging: Box; Width: 5mm; Height: 11.3mm; Gender: Male; Number of Pins: 12; Number of Rows: 1; Orientation: Vertical; Lead Pitch: 2.54mm
footprint 66101211622
pins: 1, 2, 3, 4, 5, 6, 7, 8, 9, 10, 11, 12

## 66101221622
designator P?  (value not drawn)
WR-WTB THT Male Vertical Shrouded Header, pitch 2.54mm, 12pins; Manufacturer: Wurth Elektronik; Contact Resistance: 20mohm; Rated Current: 3A; Working Voltage: 50V(AC); Withstanding Voltage: 500V(AC); Manufacturer Part Number: 66101221622; Product Series: WR-WTB; ComponentLink1Description: Website Link; ComponentLink1URL: https://www.we-online.com; ComponentLink2Description: Datasheet Link; ComponentLink2URL: https://www.we-online.com/components/products/datasheet/66101221622; Mount: Through Hole; Operating Temperature Min: -40degC; Operating Temperature Max: 125degC; Packaging: Carton; Width: 7.6mm; Height: 11.2mm; Gender: Male; Number of Pins: 12; Number of Rows: 2; Orientation: Vertical; Lead Pitch: 2.54mm
footprint 66101221622
pins: 1, 2, 3, 4, 5, 6, 7, 8, 9, 10, 11, 12

## 66101411622
designator P?  (value not drawn)
WR-WTB Male Vertical Shrouded Header, pitch 2.54mm, 14pins; Manufacturer: Wurth Elektronik; Contact Resistance: 20mohm; Rated Current: 3A; Working Voltage: 50V(AC); Withstanding Voltage: 500V(AC); Manufacturer Part Number: 66101411622; Product Series: WR-WTB; ComponentLink1Description: Website Link; ComponentLink1URL: https://www.we-online.com; ComponentLink2Description: Datasheet Link; ComponentLink2URL: https://www.we-online.com/components/products/datasheet/66101411622; Mount: Through Hole; Operating Temperature Min: -40degC; Operating Temperature Max: 125degC; Packaging: Box; Width: 5mm; Height: 11.3mm; Gender: Male; Number of Pins: 14; Number of Rows: 1; Orientation: Vertical; Lead Pitch: 2.54mm
footprint 66101411622
pins: 1, 2, 3, 4, 5, 6, 7, 8, 9, 10, 11, 12, 13, 14

## 66101421622
designator P?  (value not drawn)
WR-WTB THT Male Vertical Shrouded Header, pitch 2.54mm, 14pins; Manufacturer: Wurth Elektronik; Contact Resistance: 20mohm; Rated Current: 3A; Working Voltage: 50V(AC); Withstanding Voltage: 500V(AC); Manufacturer Part Number: 66101421622; Product Series: WR-WTB; ComponentLink1Description: Website Link; ComponentLink1URL: https://www.we-online.com; ComponentLink2Description: Datasheet Link; ComponentLink2URL: https://www.we-online.com/components/products/datasheet/66101421622; Mount: Through Hole; Operating Temperature Min: -40degC; Operating Temperature Max: 125degC; Packaging: Carton; Width: 7.6mm; Height: 11.2mm; Gender: Male; Number of Pins: 14; Number of Rows: 2; Orientation: Vertical; Lead Pitch: 2.54mm
footprint 66101421622
pins: 1, 2, 3, 4, 5, 6, 7, 8, 9, 10, 11, 12, 13, 14

## 66101611622
designator P?  (value not drawn)
WR-WTB Male Vertical Shrouded Header, pitch 2.54mm, 16pins; Manufacturer: Wurth Elektronik; Contact Resistance: 20mohm; Rated Current: 3A; Working Voltage: 50V(AC); Withstanding Voltage: 500V(AC); Manufacturer Part Number: 66101611622; Product Series: WR-WTB; ComponentLink1Description: Website Link; ComponentLink1URL: https://www.we-online.com; ComponentLink2Description: Datasheet Link; ComponentLink2URL: https://www.we-online.com/components/products/datasheet/66101611622; Mount: Through Hole; Operating Temperature Min: -40degC; Operating Temperature Max: 125degC; Packaging: Box; Width: 5mm; Height: 11.3mm; Gender: Male; Number of Pins: 16; Number of Rows: 1; Orientation: Vertical; Lead Pitch: 2.54mm
footprint 66101611622
pins: 1, 2, 3, 4, 5, 6, 7, 8, 9, 10, 11, 12, 13, 14, 15, 16

## 66101621622
designator P?  (value not drawn)
WR-WTB THT Male Vertical Shrouded Header, pitch 2.54mm, 16pins; Manufacturer: Wurth Elektronik; Contact Resistance: 20mohm; Rated Current: 3A; Working Voltage: 50V(AC); Withstanding Voltage: 500V(AC); Manufacturer Part Number: 66101621622; Product Series: WR-WTB; ComponentLink1Description: Website Link; ComponentLink1URL: https://www.we-online.com; ComponentLink2Description: Datasheet Link; ComponentLink2URL: https://www.we-online.com/components/products/datasheet/66101621622; Mount: Through Hole; Operating Temperature Min: -40degC; Operating Temperature Max: 125degC; Packaging: Carton; Width: 7.6mm; Height: 11.2mm; Gender: Male; Number of Pins: 16; Number of Rows: 2; Orientation: Vertical; Lead Pitch: 2.54mm
footprint 66101621622
pins: 1, 2, 3, 4, 5, 6, 7, 8, 9, 10, 11, 12, 13, 14, 15, 16

## 66102021622
designator P?  (value not drawn)
WR-WTB THT Male Vertical Shrouded Header, pitch 2.54mm, 20pins; Manufacturer: Wurth Elektronik; Contact Resistance: 20mohm; Rated Current: 3A; Working Voltage: 50V(AC); Withstanding Voltage: 500V(AC); Manufacturer Part Number: 66102021622; Product Series: WR-WTB; ComponentLink1Description: Website Link; ComponentLink1URL: https://www.we-online.com; ComponentLink2Description: Datasheet Link; ComponentLink2URL: https://www.we-online.com/components/products/datasheet/66102021622; Mount: Through Hole; Operating Temperature Min: -40degC; Operating Temperature Max: 125degC; Packaging: Carton; Width: 7.6mm; Height: 11.2mm; Gender: Male; Number of Pins: 20; Number of Rows: 2; Orientation: Vertical; Lead Pitch: 2.54mm
footprint 66102021622
pins: 1, 2, 3, 4, 5, 6, 7, 8, 9, 10, 11, 12, 13, 14, 15, 16, 17, 18, 19, 20